# Altium footprint library GSH_Bed.PcbLib: 5 footprints
Each footprint in its own frame and in the unit in brackets; x right, y up, seen from the top. Pads: shape width x height; smd on the part's side, far side on the other; paste and mask are expansions set on the pad; w line width, h text height; cw(c..) or ccw(c..) is an arc to the next point about the centre after c.
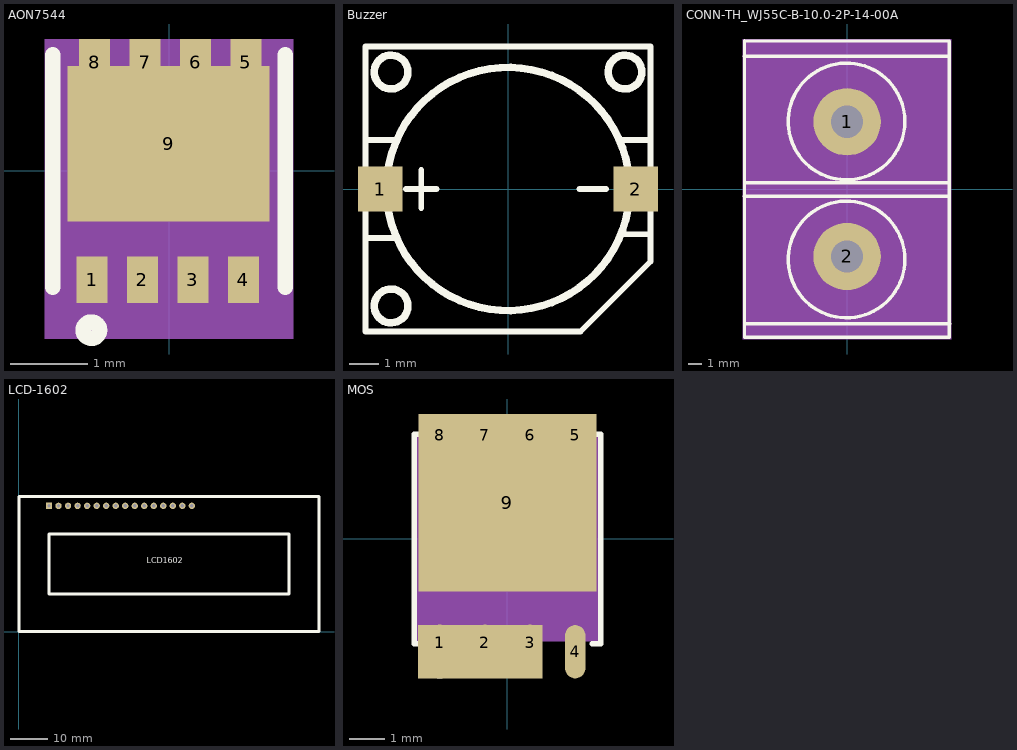
[diagram p0: the footprints below, top view; thin cyan lines are the x and y axes]

## AON7544 [mm] "N-MOS"
pads (9):
  rect 0.4x0.6 smd: 1(-0.992,-1.4) 2(-0.342,-1.4) 3(0.308,-1.4) 4(0.958,-1.4) 5(0.992,1.4) 6(0.341,1.4) 7(-0.309,1.4) 8(-0.959,1.4)
  rect 2.6x2 smd: 9(-0.005,0.35)
Top Overlay:
  circle w0.2: c-1,-2.05 r0.105
  lines w0.2: -1.5,-1.5 -1.5,1.5 ; 1.5,-1.5 1.5,1.5
Mechanical 4:
  region: -1.6,1.7 1.6,1.7 1.6,-2.164 -1.6,-2.164
Mechanical 5:
  region: -1.305,1.35 1.295,1.35 1.295,-0.65 -1.305,-0.65
  region: 0.792,1.7 1.192,1.7 1.192,1.1 0.792,1.1
  region: 0.141,1.7 0.541,1.7 0.541,1.1 0.141,1.1
  region: -0.509,1.7 -0.109,1.7 -0.109,1.1 -0.509,1.1
  region: -1.159,1.7 -0.759,1.7 -0.759,1.1 -1.159,1.1
  region: 0.758,-1.1 1.158,-1.1 1.158,-1.7 0.758,-1.7
  region: 0.108,-1.1 0.508,-1.1 0.508,-1.7 0.108,-1.7
  region: -0.542,-1.1 -0.142,-1.1 -0.142,-1.7 -0.542,-1.7
  region: -1.192,-1.1 -0.792,-1.1 -0.792,-1.7 -1.192,-1.7

## Buzzer [mm] "蜂鸣器"
pads (2):
  rect 1.5x1.5 smd: 1(-4.3,0) 2(4.3,0)
Top Overlay:
  circle w0.254: c-3.937,-3.937 r0.568
  circle w0.254: c3.937,3.937 r0.568
  circle w0.254: c-3.937,3.937 r0.568
  circle w0.254: c0,0 r4.096
  lines w0.2: -4.8,-1.651 -3.81,-1.651 ; -4.8,1.651 -3.81,1.651 ; -3.429,0 -2.413,0 ; -2.921,-0.635 -2.921,0.635 ; 2.413,0 3.302,0 ; 3.81,-1.524 4.8,-1.524 ; 3.81,1.651 4.8,1.651 ; -4.8,-4.8 2.439,-4.8 4.8,-2.439 4.8,4.8 -4.8,4.8 -4.8,-4.8

## CONN-TH_WJ55C-B-10.0-2P-14-00A [mm]
pads (2):
  round 5 hole 2.4: 1(0,5) 2(0,-5)
Top Overlay:
  circle w0.254: c-0.042,-5.22 r4.332
  circle w0.254: c-0.043,5.029 r4.332
  lines w0.254: -7.633,-0.512 7.567,-0.512 ; -7.623,9.861 7.577,9.861 ; -7.62,-10.973 -7.62,11.024 ; -7.613,0.48 7.587,0.48 ; -7.6,-11 7.6,-11 ; -7.6,11 7.6,11 ; -7.58,-10.008 7.62,-10.008 ; 7.595,-10.998 7.595,10.998
Mechanical 4:
  region: -7.76,11.151 7.747,11.151 7.747,-11.127 -7.76,-11.127
Mechanical 5:
  region: -1.7,-3.3 1.7,-3.3 1.7,-6.7 -1.7,-6.7
  region: -1.7,6.7 1.7,6.7 1.7,3.3 -1.7,3.3

## LCD-1602 [mm]
pads (16):
  rect 1.7x1.7 hole 0.9: 1(8.001,33.528)
  round 1.7 hole 0.9: 2(10.541,33.528) 3(13.081,33.528) 4(15.621,33.528) 5(18.161,33.528) 6(20.701,33.528) 7(23.241,33.528) 8(25.781,33.528) 9(28.321,33.528) 10(30.861,33.528) 11(33.401,33.528) 12(35.941,33.528) 13(38.481,33.528) 14(41.021,33.528) 15(43.561,33.528) 16(46.101,33.528)
Top Overlay:
  lines w0.762: 0.001,0.028 80.001,0.028 80.001,36.028 0.001,36.028 0.001,0.028 ; 8.001,10.028 72.001,10.028 72.001,26.028 8.001,26.028 8.001,10.028
  text "LCD1602" at 34.037,18.248 h1.52
3D body "1602LCD.STEP": height 9, standoff -3.7, extent -0.146,0.418 79.854,35.418

## MOS [mil]
pads (10):
  oval 22.6x40 smd: 1(-75,-114.88) 2(-25,-114.88) 3(25,-114.88) 5(75,114.88) 6(25,114.88) 7(-25,114.88) 8(-75,114.88)
  oval 22.6x59.06 smd: 4(75,-125)
  rect 196.85x196.85 smd: 9(0,40)
  rect 137.8x59.06 smd: ""(-30,-125)
Top Overlay:
  circle w8.07: c-75,-146.69 r4.04
  lines w6: -93.8,-116.19 -103.39,-116.19 -103.39,116.19 -93.8,116.19 ; 93.8,-116.19 103.39,-116.19 103.39,116.19 93.8,116.19
Mechanical 4:
  region: -100.39,-113.19 -100.39,113.19 100.39,113.19 100.39,-113.19
Mechanical 5:
  region: -82.87,-22.05 -82.87,98.42 82.87,98.42 82.87,-35.43 -69.49,-35.43
  region: -83.07,113.19 -83.07,95.87 -66.93,95.87 -66.93,113.19
  region: -33.07,113.19 -33.07,95.87 -16.93,95.87 -16.93,113.19
  region: 16.93,113.19 16.93,95.87 33.07,95.87 33.07,113.19
  region: 66.93,113.19 66.93,95.87 83.07,95.87 83.07,113.19
  region: 66.93,-113.19 66.93,-95.87 83.07,-95.87 83.07,-113.19
  region: 16.93,-113.19 16.93,-95.87 33.07,-95.87 33.07,-113.19
  region: -33.07,-113.19 -33.07,-95.87 -16.93,-95.87 -16.93,-113.19
  region: -83.07,-113.19 -83.07,-95.87 -66.93,-95.87 -66.93,-113.19
Mechanical 6:
  circle w2.36: c-100.39,-113.19 r1.18
Mechanical 15:
  circle w8.07: c-75,-125 r4.04